# EAGLE library part MAX9939 (library JK-op amps)
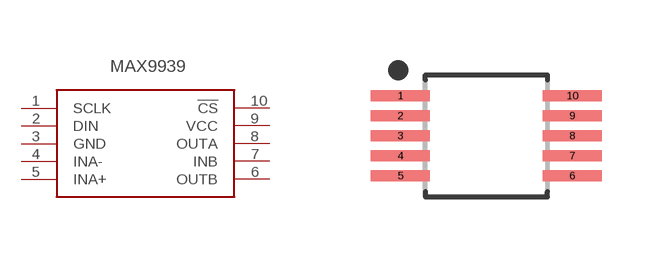
[diagram p0: symbol with the pads of 10-UMAX/SOP; footprint 10-UMAX/SOP]

Designator prefix -

## MAX9939 (GENERATOR: Jake Kapala; MANUFACTURER: Maxim Integrated; MAX_SUPPLY_VOLTAGE: 5.5V; MIN_SUPPLY_VOLTAGE: 2.9V; PACKAGE: SOP; PINS: 10)  [10-UMAX/SOP]
1  SCLK
2  DIN
3  GND
4  INA-
5  INA+
6  OUTB
7  INB
8  OUTA
9  VCC
10  !CS

## Footprint 10-UMAX/SOP (pad centres in mm)
10-SOP, 0.50 mm pitch, 4.90 mm span, 3.00 X 3.00 X 1.10 mm body 10-pin SOP package with 0.50 mm pitch, 4.90 mm span with body size 3.00 X 3.00 X 1.10 mm
smd 1.471 x 0.282: 1 -2.15,1; 2 -2.15,0.5; 3 -2.15,0; 4 -2.15,-0.5; 5 -2.15,-1; 6 2.15,-1; 7 2.15,-0.5; 8 2.15,0; 9 2.15,0.5; 10 2.15,1